# Altium footprint library DXT5551P5-13.PcbLib: 1 footprints
Each footprint in its own frame and in the unit in brackets; x right, y up, seen from the top. Pads: shape width x height; smd on the part's side, far side on the other; paste and mask are expansions set on the pad; w line width, h text height; cw(c..) or ccw(c..) is an arc to the next point about the centre after c.
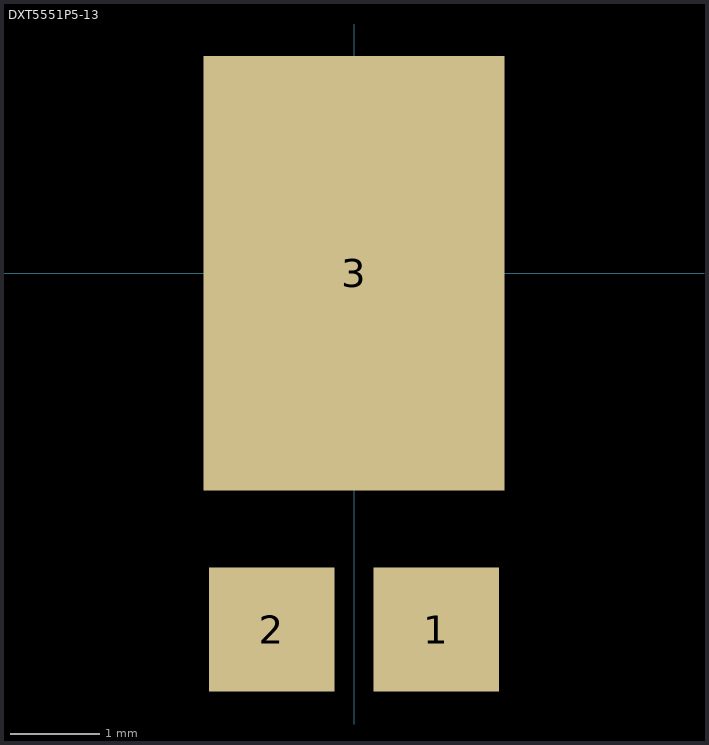
[diagram p0: the footprint, top view; thin cyan lines are the x and y axes]

## DXT5551P5-13 [mm]
pads (3):
  rect 1.4x1.39 smd: 1(0.92,-3.982) 2(-0.92,-3.982)
  rect 3.36x4.86 smd: 3(0,0)